# Altium schematic symbol library BFP640.SchLib: 1 symbol
Pins are listed as number, name and electrical type; pins without a type are passive.

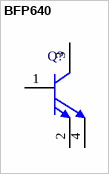
[diagram p0: symbol BFP640]

## BFP640
designator Q?
NPN Silicon Germanium RF Transistor, 4 V VCEO, 50 mA IC, 24 dB Gmax, SOT343, Green; Manufacturer: Infineon; PartNumber: BFP640; Gmax (typ): 24 dB; Green: yes; Group: Ultra low noise SiGe; IC (max): 50 mA; NFmin (typ): 0.65 dB; Ptot (max): 200.0 mW; VCEO (max): 4 V; DatasheetVersion: ########; PackageReference: SOT343; PackageDescription: 4-Pin Small Outline Transistor Package, 1.25 x 2 mm Body; Halogen-free: yes; Mounting Technology: Surface Mount; ComponentLink1Description: Manufacturer URL; ComponentLink1URL: http://www.infineon.com/; ComponentLink2Description: Datasheet; ComponentLink2URL: http://www.infineon.com/dgdl/bfp640.pdf?folderId=db3a30431400ef68011425b291f205c5&fileId=db3a30431400ef6801142747c1a1071d&location=en.Products.RF.RF_Transistors_.Ultra_Low_Noise_SiGe_C_Transistors_for_use_up_to_12_GHz.DATASHEET.bfp640.pdf; ComponentLink3Description: Package Specification; ComponentLink3URL: http://www.infineon.com/dgdl/SOT343-Package_Overview.pdf?folderId=db3a30431936bc4b0119535155343cba&fileId=db3a30431936bc4b0119535a9f393cd3
footprint INF-SOT343_V (SOT343, 4-Leads, Body 2x1.25 mm)
pins: 1 B, 2 E, 3 C, 4 E